# Altium schematic symbol library TEENSY_4.SCHLIB: 1 symbol
Pins are listed as number, name and electrical type; pins without a type are passive.

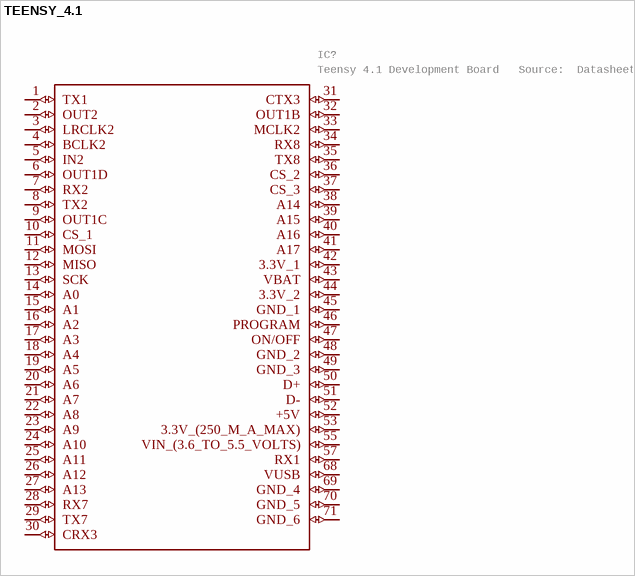
[diagram p0: symbol TEENSY_4.1]

## TEENSY_4.1
designator IC?, comment Teensy 4.1 Development Board   Source:  Datasheet
MANUFACTURER_NAME: PJRC; GateName_1: G$1; SymbolName_1: TEENSY_4.1; LibraryName: TEENSY_4.1 v1; DeviceSetName: TEENSY_4.1; Package: TEENSY41; DESCRIPTION: Teensy 4.1 Development Board; HEIGHT: mm; MANUFACTURER_PART_NUMBER: TEENSY 4.1
footprint TEENSY41
pins: 1 TX1 (io), 2 OUT2 (io), 3 LRCLK2 (io), 4 BCLK2 (io), 5 IN2 (io), 6 OUT1D (io), 7 RX2 (io), 8 TX2 (io), 9 OUT1C (io), 10 CS_1 (io), 11 MOSI (io), 12 MISO (io), 13 SCK (io), 14 A0 (io), 15 A1 (io), 16 A2 (io), 17 A3 (io), 18 A4 (io), 19 A5 (io), 20 A6 (io), 21 A7 (io), 22 A8 (io), 23 A9 (io), 24 A10 (io), 25 A11 (io), 26 A12 (io), 27 A13 (io), 28 RX7 (io), 29 TX7 (io), 30 CRX3 (io), 31 CTX3 (io), 32 OUT1B (io), 33 MCLK2 (io), 34 RX8 (io), 35 TX8 (io), 36 CS_2 (io), 37 CS_3 (io), 38 A14 (io), 39 A15 (io), 40 A16 (io), 41 A17 (io), 42 3.3V_1 (io), 43 VBAT (io), 44 3.3V_2 (io), 45 GND_1 (io), 46 PROGRAM (io), 47 ON/OFF (io), 48 GND_2 (io), 49 GND_3 (io), 50 D+ (io), 51 D- (io), 52 +5V (io), 53 3.3V_(250_M_A_MAX) (io), 55 VIN_(3.6_TO_5.5_VOLTS) (io), 57 RX1 (io), 68 VUSB (io), 69 GND_4 (io), 70 GND_5 (io), 71 GND_6 (io)